# Altium schematic symbol library customLib.SchLib: 22 symbols
Pins are listed as number, name and electrical type; pins without a type are passive.

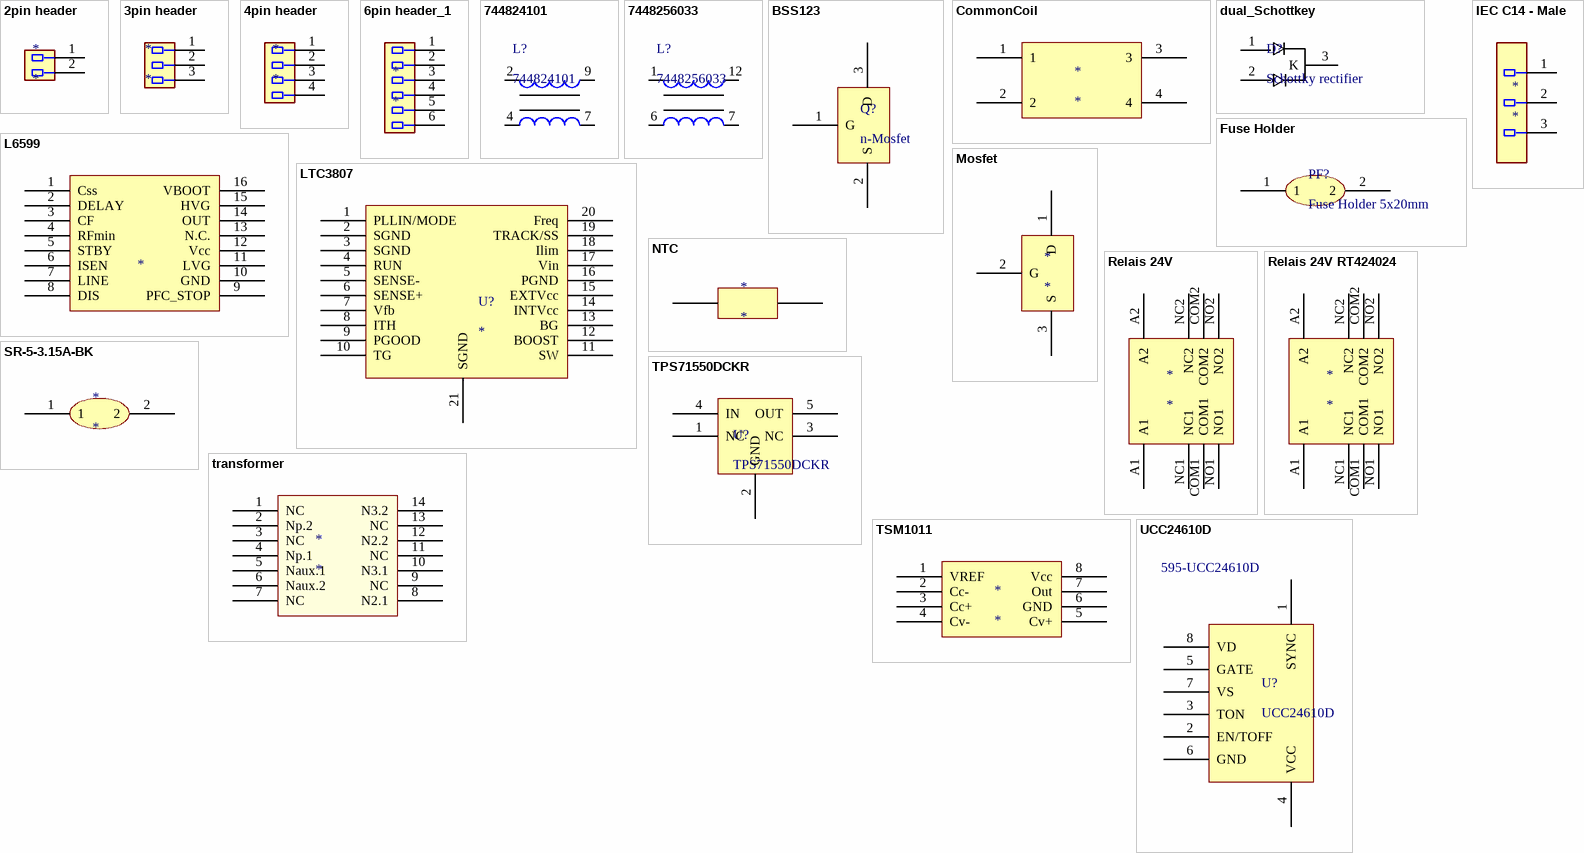
[diagram p0: symbols 2pin header to UCC24610D]

## 2pin header
designator *
footprint 2pin, 7.62, Wire
pins: 1, 2

## 3pin header
designator *
footprint 3pin terminal connector
footprint 3pin, 3.5, terminal connector (3pin, 3.5mm terminal connector)
footprint 3pin, 3.81, terminal connector (3pin, 3.81mm, terminal connector)
footprint 3pin, 5.08 terminal connector (3pin, 5.08, terminal connector)
footprint 3pin, 7.62, terminal connector
footprint 3pin, 10, Wire
pins: 1, 2, 3

## 4pin header
designator *
footprint 4pin, 3.5, terminal connector (4pin, 3.5mm terminal connector)
footprint 4pin, 5.08 terminal connector (4pin, 5.08, terminal connector)
pins: 1, 2, 3, 4

## 6pin header_1
designator *
footprint 6pin, 3.5, terminal connector (6pin, 3.5mm terminal connector)
footprint 6pin, 5.08 terminal connector (6pin, 5.08, terminal connector)
pins: 1, 2, 3, 4, 5, 6

## 744824101
designator L?
THT Common Mode Power Line Choke WE-CMB, L = 1.00 mH; Inductance: 1.00 mH; ComponentLink1Description: Manufacturer Link; ComponentLink2Description: Datasheet; DatasheetVersion: ver 5, Oct-2004; ComponentLink1URL: http://www.we-online.com; PackageVersion: 2004; PackageDescription: THT Inductor, 4-Leads, Body 27.5 x 18.5 mm; ComponentLink2URL: http://www.we-online.de/katalog/media/pdf/744824101.pdf; PackageReference: WE-CMB-L; PartNumber: 744824101
footprint WE-CMB-L (THT Inductor, 4-Leads, Body 27.5 x 18.5 mm)
pins: 2, 4, 7, 9

## 7448256033
designator L?
THT Common Mode Power Line Choke WE-CMB, L = 3.30 mH; Inductance: 3.30 mH; ComponentLink1Description: Manufacturer Link; ComponentLink2Description: Datasheet; DatasheetVersion: ver 4, Oct-2004; ComponentLink1URL: http://www.we-online.com; PackageVersion: 2004; PackageDescription: THT Inductor, 4-Leads, Body 30.0 x 21.0 mm; ComponentLink2URL: http://www.we-online.de/katalog/media/pdf/7448256033.pdf; PackageReference: WE-CMB-XL; PartNumber: 7448256033
footprint WE-CMB-XL
pins: 1, 6, 7, 12

## BSS123
designator Q?, comment n-Mosfet
footprint BSS123 (SOT-23-3, 3-Leads, Body 2,90x2,45mm, Pitch 0,95mm, IPC Medium Density)
pins: 1 G, 2 S, 3 D

## CommonCoil
designator *
footprint CommonCoil
footprint BridgeRectif
footprint SCR-020-0R55A250 (Trafo 2x25mH, 2amp)
pins: 1, 2, 3, 4

## dual_Schottkey
designator D?, comment Schottky rectifier
footprint dualSchottkey (D2-PAK, 3-Pads, Body 7,60x8,46mm (max), IPC Medium Density)
pins: 1 A1, 2 A2, 3 K

## Fuse Holder
designator PF?, comment Fuse Holder 5x20mm
footprint FuseHolder (FuseHolder 5x20mm)
pins: 1, 2

## IEC C14 - Male
designator *
footprint IEC C14 (Kaltgeraetestecker PCB mount Male)
footprint IEC C13 FM (Kaltgeraetestecker PCB mount Female)
footprint 3pin terminal connector
pins: 1, 2, 3

## L6599
designator ?
footprint SOP127P600X175-16N (SOP, 16-Leads, Body 9,90x3,90mm, Pitch 1,27mm, IPC Medium Density)
pins: 1 Css, 2 DELAY, 3 CF, 4 RFmin, 5 STBY, 6 ISEN, 7 LINE, 8 DIS, 9 PFC_STOP, 10 GND, 11 LVG, 12 Vcc, 13 N.C., 14 OUT, 15 HVG, 16 VBOOT

## LTC3807
designator U?
footprint LTC3807-UDC_Package (QFN, 20-Leads, Body 3,00x4,00mm, Pitch 0,50mm, Thermal Pad 1,50x2,60mm, IPC Medium Density)
pins: 1 PLLIN/MODE, 2 SGND, 3 SGND, 4 RUN, 5 SENSE-, 6 SENSE+, 7 Vfb, 8 ITH, 9 PGOOD, 10 TG, 11 SW, 12 BOOST, 13 BG, 14 INTVcc, 15 EXTVcc, 16 PGND, 17 Vin, 18 Ilim, 19 TRACK/SS, 20 Freq, 21 SGND

## Mosfet
designator *
footprint BSZ034N04LS
pins: 1 D, 2 G, 3 S

## NTC
designator *
footprint PCBComponent_1 - duplicate
footprint Film Capacitor
footprint RESC8250X20N (Chip Resistor, 2-Leads, Body 8,21x4,98mm, IPC Medium Density)
footprint Capacitor
footprint NTC
pins: 1, 2

## Relais 24V
designator *
RT314024 a SPDT 24V 16A Relais
footprint Relais-RT314024 (TE-RT314024, Relais 16A-24V)
pins: A1, A2, COM1, COM2, NC1, NC2, NO1, NO2

## Relais 24V RT424024
designator *
RT424024 a DPDT 24V 8A Relais
footprint Relais-RT314024 (TE-RT314024, Relais 16A-24V)
pins: A1, A2, COM1, COM2, NC1, NC2, NO1, NO2

## SR-5-3.15A-BK
designator *
footprint SOD-80 (MELF Diode, 2-Leads, Body 3,50x1,65mm, IPC Medium Density)
footprint MRA4007T3G (Molded Diode, 2-Leads, Body 4,31x2,61mm, IPC Medium Density)
footprint SOD-123 (SODFL, 2-Leads, Body 1,60x3,71mm, IPC Medium Density)
footprint Fuse
footprint NTC
footprint Varistor (Chip Resistor, 2-Leads, Body 8,21x4,98mm, IPC Medium Density)
footprint 100uF25V (100uF25V, Aluminum Electrolytic Capacitor, Body 6,60x6,60x6,30mm, IPC Low Density)
footprint 100uF160V (Aluminum Electrolytic Capacitor, Body 19,00x19,00x21,50mm, IPC Low Density)
footprint 470uF,35V (Aluminum Electrolytic Capacitor, Body 10,30x10,30x10,20mm, IPC Low Density)
footprint 12V Zener (SODFL, 2-Leads, Body 1,71x3,60mm, IPC Medium Density)
footprint 100uF, 50V (EEHZA1H101P)
footprint 22uF, 63V (EEH-ZA1J220XP)
footprint 0.22uH 20% (Festinduktivitäten .22uH 20%, 21 A)
footprint Inductor Ser2900 (SER2915H-103KL)
footprint Poti
footprint cap d=6.3 (6.3mm diam)
footprint cap d=10 (6.3mm diam)
pins: 1, 2

## TPS71550DCKR
designator U?
footprint TPS71550DCKR (SOTFL, 5-Leads, Body 2,00x2,10mm, Pitch 0,65mm, IPC Medium Density)
pins: 1 NC, 2 GND, 3 NC, 4 IN, 5 OUT

## transformer
designator *
footprint Transformer
pins: 1 NC, 2 Np.2, 3 NC, 4 Np.1, 5 Naux.1, 6 Naux.2, 7 NC, 8 N2.1, 9 NC, 10 N3.1, 11 NC, 12 N2.2, 13 NC, 14 N3.2

## TSM1011
designator *
footprint SOP127P600X175-8N (SOP, 8-Leads, Body 4,85x3,90mm, Pitch 1,27mm, IPC Medium Density)
pins: 1 VREF, 2 Cc-, 3 Cc+, 4 Cv-, 5 Cv+, 6 GND, 7 Out, 8 Vcc

## UCC24610D
designator U?  Supplier Part Number 1: 595-UCC24610D
Supplier 1: Mouser
footprint UCC24610D (UCC24610D, SOIC)
pins: 1 SYNC, 2 EN/TOFF, 3 TON, 4 VCC, 5 GATE, 6 GND, 7 VS, 8 VD